# Altium schematic symbol library P7805-Q24-S5-S.SchLib: 1 symbol
Pins are listed as number, name and electrical type; pins without a type are passive.

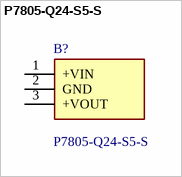
[diagram p0: symbol P7805-Q24-S5-S]

## P7805-Q24-S5-S
designator B?
Linear Regulator Replacement DC DC Converter Output 5V - - 500mA 6.5V - 32V Input; Manufacturer_Name: CUI Inc.; Geometry.Height: 10.45mm; Mouser Part Number: 490-P7805-Q24-S5-S; Mouser Price/Stock: https://www.mouser.co.uk/ProductDetail/CUI-Inc/P7805-Q24-S5-S?qs=WyjlAZoYn52PK%2FEcIExJpA%3D%3D; Manufacturer_Part_Number: P7805-Q24-S5-S; Datasheet Link: http://www.cui.com/product/resource/p7805-s.pdf
footprint P7805Q24S5S
pins: 1 +VIN, 2 GND, 3 +VOUT